# Altium integrated library TI_Logic_Gate.IntLib: 2017 symbols (part 2 of 56)
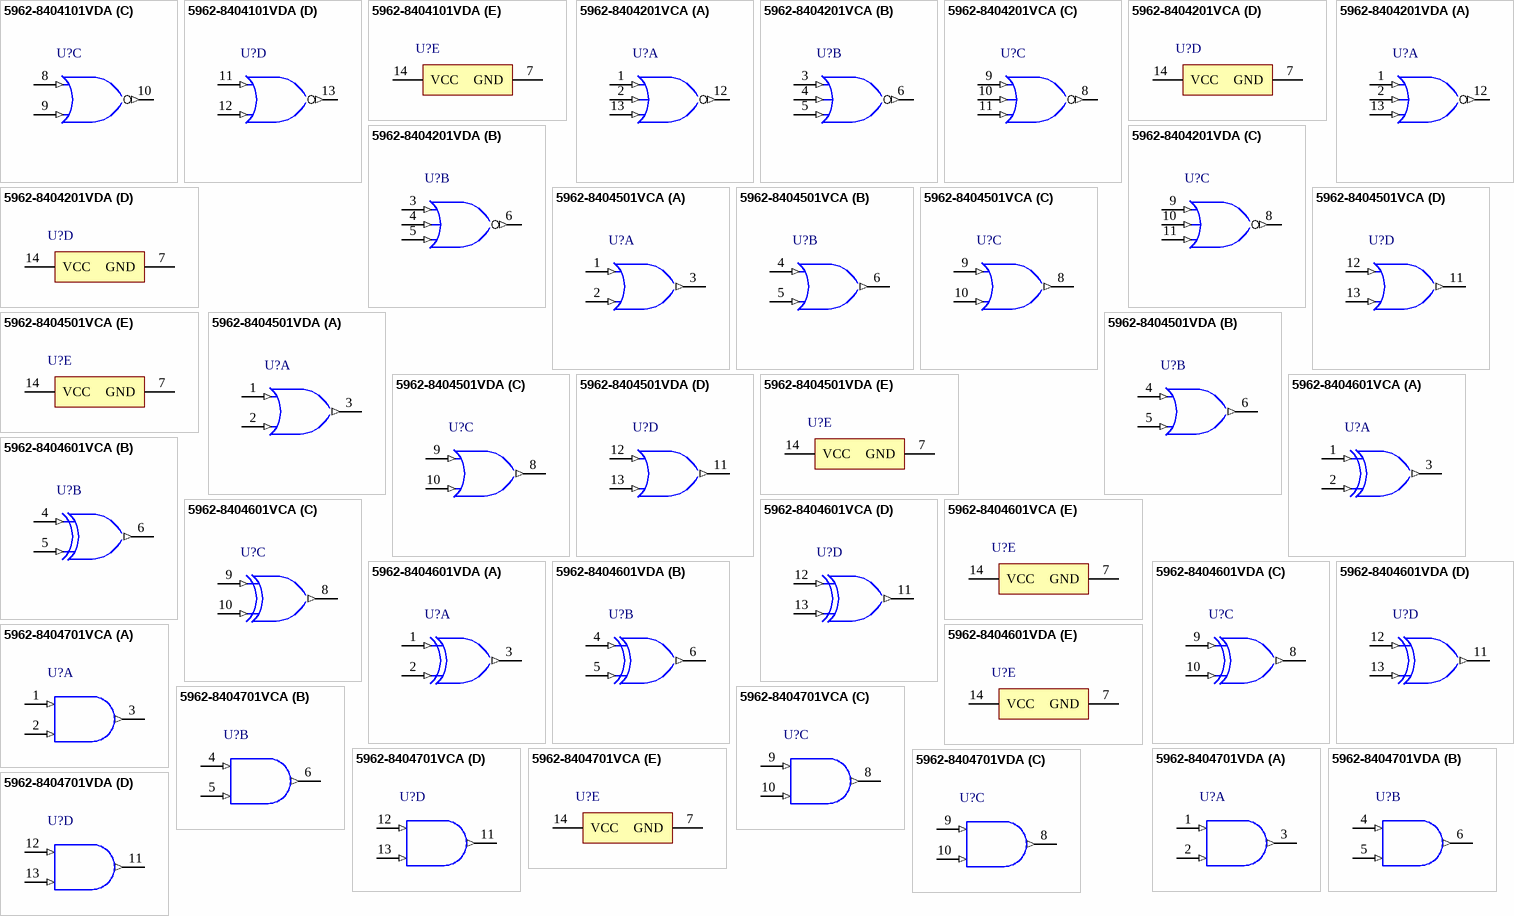
[diagram p227: symbols 5962-8404101VDA to 5962-8404701VDA]

## 5962-8404501VDA
designator U?
Quadruple 2-Input Positive-OR Gates, W0014A, TUBE; Generic Part Number: SN54HC32-SP; Manufacturer: Texas Instruments; PartNumber: 5962-8404501VDA; VCC(Min)(V): 2; VCC(Max)(V): 6; Output Type: CMOS; Bits(#): 4; Rating: Space; tpd @ Nom Voltage(Max)(ns): 150; DatasheetVersion: SCLS200D; PackageReference: W0014A; Input Type: CMOS; Operating Temperature Range(C): -55 to 125; ComponentLink1Description: Manufacturer URL; ComponentLink1URL: http://www.ti.com/; ComponentLink2Description: Datasheet; ComponentLink2URL: http://www.ti.com/lit/ds/symlink/sn54hc32-sp.pdf; ComponentLink3Description: Package Specification; ComponentLink3URL: http://www.ti.com/lit/ml/mcfp002c/mcfp002c.pdf
footprint W0014A_N (CFP, 14-Leads, Body 9.91x6.6mm, Pitch 1.27mm, IPC Medium Density)
footprint W0014A_M (CFP, 14-Leads, Body 9.91x6.6mm, Pitch 1.27mm, IPC Low Density)
footprint W0014A_L (CFP, 14-Leads, Body 9.91x6.6mm, Pitch 1.27mm, IPC High Density)
part A pins: 1 1A (in), 2 1B (in), 3 1Y (out)
part B pins: 4 2A (in), 5 2B (in), 6 2Y (out)
part C pins: 8 3Y (out), 9 3A (in), 10 3B (in)
part D pins: 11 4Y (out), 12 4A (in), 13 4B (in)
part E pins: 7 GND (power), 14 VCC (power)

## 5962-8404601VCA
designator U?
Quadruple 2-Input Exclusive-OR Gates, J0014A, TUBE; Generic Part Number: SN54HC86-SP; Manufacturer: Texas Instruments; PartNumber: 5962-8404601VCA; VCC(Min)(V): 2; VCC(Max)(V): 6; Output Type: CMOS; Rating: Space; Technology Family: HC; Schmitt Trigger: No; DatasheetVersion: SCLS100E; PackageReference: J0014A; Input Type: CMOS; ComponentLink1Description: Manufacturer URL; ComponentLink1URL: http://www.ti.com/; ComponentLink2Description: Datasheet; ComponentLink2URL: http://www.ti.com/lit/ds/symlink/sn54hc86-sp.pdf
footprint J0014A (DIP, 14-Leads, Body 19.95x7.2mm, Pitch 2.54mm)
part A pins: 1 1A (in), 2 1B (in), 3 1Y (out)
part B pins: 4 2A (in), 5 2B (in), 6 2Y (out)
part C pins: 8 3Y (out), 9 3A (in), 10 3B (in)
part D pins: 11 4Y (out), 12 4A (in), 13 4B (in)
part E pins: 7 GND (power), 14 VCC (power)

## 5962-8404601VDA
designator U?
Quadruple 2-Input Exclusive-OR Gates, W0014A, TUBE; Generic Part Number: SN54HC86-SP; Manufacturer: Texas Instruments; PartNumber: 5962-8404601VDA; VCC(Min)(V): 2; VCC(Max)(V): 6; Output Type: CMOS; Rating: Space; Technology Family: HC; Schmitt Trigger: No; DatasheetVersion: SCLS100E; PackageReference: W0014A; Input Type: CMOS; ComponentLink1Description: Manufacturer URL; ComponentLink1URL: http://www.ti.com/; ComponentLink2Description: Datasheet; ComponentLink2URL: http://www.ti.com/lit/ds/symlink/sn54hc86-sp.pdf
footprint W0014A_N (CFP, 14-Leads, Body 9.91x6.6mm, Pitch 1.27mm, IPC Medium Density)
footprint W0014A_M (CFP, 14-Leads, Body 9.91x6.6mm, Pitch 1.27mm, IPC Low Density)
footprint W0014A_L (CFP, 14-Leads, Body 9.91x6.6mm, Pitch 1.27mm, IPC High Density)
part A pins: 1 1A (in), 2 1B (in), 3 1Y (out)
part B pins: 4 2A (in), 5 2B (in), 6 2Y (out)
part C pins: 8 3Y (out), 9 3A (in), 10 3B (in)
part D pins: 11 4Y (out), 12 4A (in), 13 4B (in)
part E pins: 7 GND (power), 14 VCC (power)

## 5962-8404701VCA
designator U?
Quadruple 2-Input Positive-AND Gates, J0014A, TUBE; Generic Part Number: SN54HC08-SP; Manufacturer: Texas Instruments; PartNumber: 5962-8404701VCA; VCC(Min)(V): 2; VCC(Max)(V): 6; Output Type: CMOS; Rating: Space; Technology Family: HC; Schmitt Trigger: No; tpd @ Nom Voltage(Max)(ns): 150; DatasheetVersion: SCLS081F; PackageReference: J0014A; Input Type: CMOS; Operating Temperature Range(C): -55 to 125; ComponentLink1Description: Manufacturer URL; ComponentLink1URL: http://www.ti.com/; ComponentLink2Description: Datasheet; ComponentLink2URL: http://www.ti.com/lit/ds/symlink/sn54hc08-sp.pdf
footprint J0014A (DIP, 14-Leads, Body 19.95x7.2mm, Pitch 2.54mm)
part A pins: 1 1A (in), 2 1B (in), 3 1Y (out)
part B pins: 4 2A (in), 5 2B (in), 6 2Y (out)
part C pins: 8 3Y (out), 9 3A (in), 10 3B (in)
part D pins: 11 4Y (out), 12 4A (in), 13 4B (in)
part E pins: 7 GND (power), 14 VCC (power)

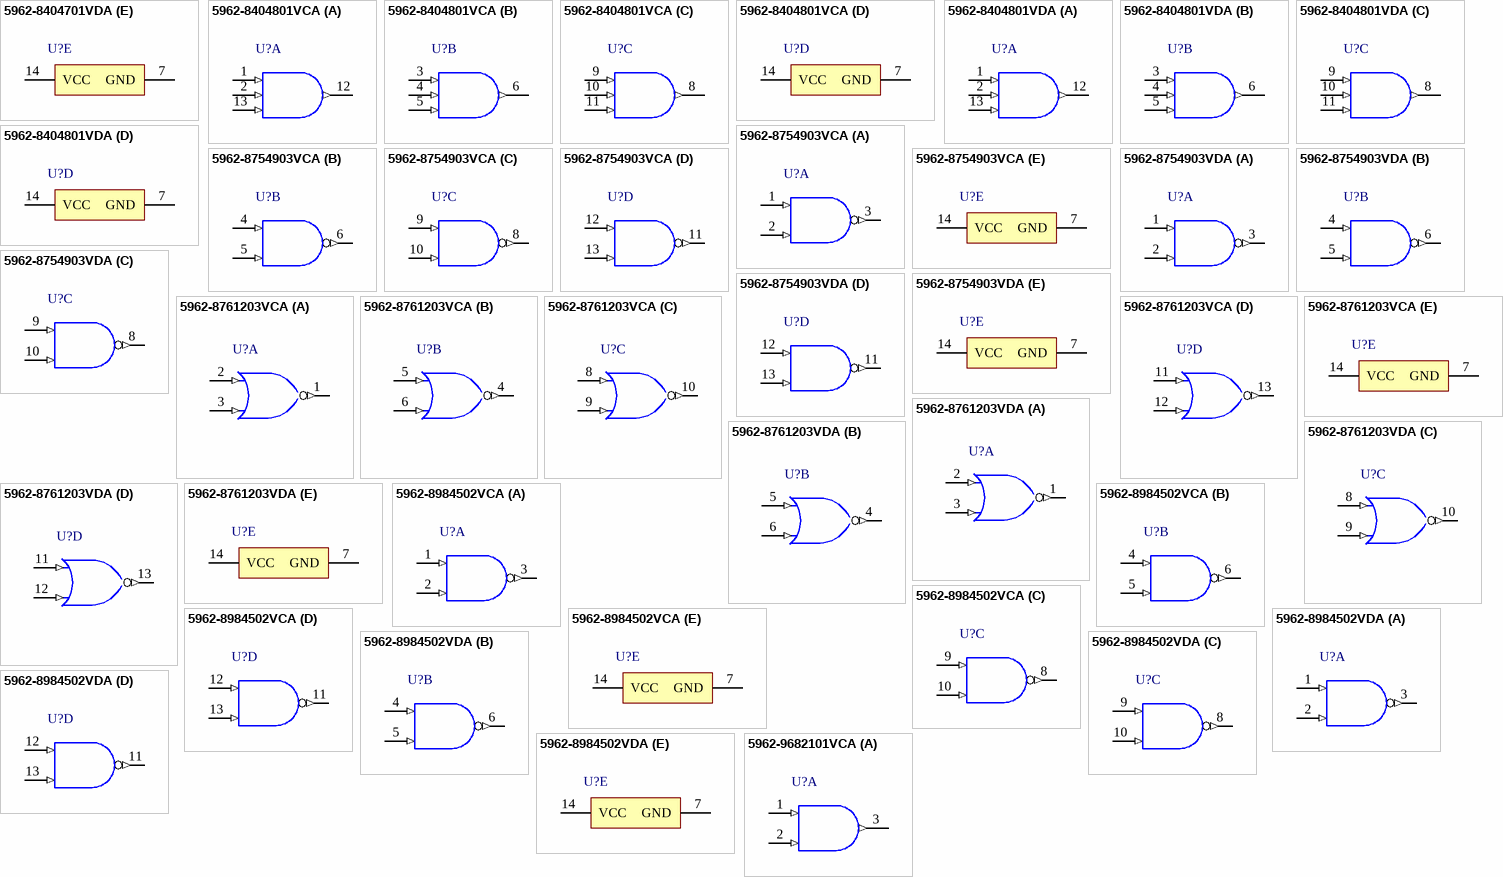
[diagram p5: symbols 5962-8404701VDA to 5962-9682101VCA]

## 5962-8404701VDA
designator U?
Quadruple 2-Input Positive-AND Gates, W0014A, TUBE; Generic Part Number: SN54HC08-SP; Manufacturer: Texas Instruments; PartNumber: 5962-8404701VDA; VCC(Min)(V): 2; VCC(Max)(V): 6; Output Type: CMOS; Rating: Space; Technology Family: HC; Schmitt Trigger: No; tpd @ Nom Voltage(Max)(ns): 150; DatasheetVersion: SCLS081F; PackageReference: W0014A; Input Type: CMOS; Operating Temperature Range(C): -55 to 125; ComponentLink1Description: Manufacturer URL; ComponentLink1URL: http://www.ti.com/; ComponentLink2Description: Datasheet; ComponentLink2URL: http://www.ti.com/lit/ds/symlink/sn54hc08-sp.pdf
footprint W0014A_N (CFP, 14-Leads, Body 9.91x6.6mm, Pitch 1.27mm, IPC Medium Density)
footprint W0014A_M (CFP, 14-Leads, Body 9.91x6.6mm, Pitch 1.27mm, IPC Low Density)
footprint W0014A_L (CFP, 14-Leads, Body 9.91x6.6mm, Pitch 1.27mm, IPC High Density)
part A pins: 1 1A (in), 2 1B (in), 3 1Y (out)
part B pins: 4 2A (in), 5 2B (in), 6 2Y (out)
part C pins: 8 3Y (out), 9 3A (in), 10 3B (in)
part D pins: 11 4Y (out), 12 4A (in), 13 4B (in)
part E pins: 7 GND (power), 14 VCC (power)

## 5962-8404801VCA
designator U?
Triple 3-Input Positive-AND Gates, J0014A, TUBE; Generic Part Number: SN54HC11-SP; Manufacturer: Texas Instruments; PartNumber: 5962-8404801VCA; VCC(Min)(V): 2; VCC(Max)(V): 6; Output Type: CMOS; Rating: Space; Technology Family: HC; Schmitt Trigger: No; Output Drive (IOL/IOH)(Max)(mA): -5.2/5.2; tpd @ Nom Voltage(Max)(ns): 150; DatasheetVersion: SCLS084D; PackageReference: J0014A; Input Type: CMOS; ComponentLink1Description: Manufacturer URL; ComponentLink1URL: http://www.ti.com/; ComponentLink2Description: Datasheet; ComponentLink2URL: http://www.ti.com/lit/ds/symlink/sn54hc11-sp.pdf
footprint J0014A (DIP, 14-Leads, Body 19.95x7.2mm, Pitch 2.54mm)
part A pins: 1 1A (in), 2 1B (in), 12 1Y (out), 13 1C (in)
part B pins: 3 2A (in), 4 2B (in), 5 2C (in), 6 2Y (out)
part C pins: 8 3Y (out), 9 3A (in), 10 3B (in), 11 3C (in)
part D pins: 7 GND (power), 14 VCC (power)

## 5962-8404801VDA
designator U?
Triple 3-Input Positive-AND Gates, W0014A, TUBE; Generic Part Number: SN54HC11-SP; Manufacturer: Texas Instruments; PartNumber: 5962-8404801VDA; VCC(Min)(V): 2; VCC(Max)(V): 6; Output Type: CMOS; Rating: Space; Technology Family: HC; Schmitt Trigger: No; Output Drive (IOL/IOH)(Max)(mA): -5.2/5.2; tpd @ Nom Voltage(Max)(ns): 150; DatasheetVersion: SCLS084D; PackageReference: W0014A; Input Type: CMOS; ComponentLink1Description: Manufacturer URL; ComponentLink1URL: http://www.ti.com/; ComponentLink2Description: Datasheet; ComponentLink2URL: http://www.ti.com/lit/ds/symlink/sn54hc11-sp.pdf
footprint W0014A_N (CFP, 14-Leads, Body 9.91x6.6mm, Pitch 1.27mm, IPC Medium Density)
footprint W0014A_M (CFP, 14-Leads, Body 9.91x6.6mm, Pitch 1.27mm, IPC Low Density)
footprint W0014A_L (CFP, 14-Leads, Body 9.91x6.6mm, Pitch 1.27mm, IPC High Density)
part A pins: 1 1A (in), 2 1B (in), 12 1Y (out), 13 1C (in)
part B pins: 3 2A (in), 4 2B (in), 5 2C (in), 6 2Y (out)
part C pins: 8 3Y (out), 9 3A (in), 10 3B (in), 11 3C (in)
part D pins: 7 GND (power), 14 VCC (power)

## 5962-8754903VCA
designator U?
Quadruple 2-Input Positive-NAND Gates, J0014A, TUBE; Generic Part Number: SN54AC00-SP; Manufacturer: Texas Instruments; PartNumber: 5962-8754903VCA; VCC(Min)(V): 2; VCC(Max)(V): 6; Output Type: CMOS; ICC @ Nom Voltage(Max)(mA): 0.04; F @ Nom Voltage(Max)(Mhz): 100; Rating: Space; Technology Family: AC; Voltage(Nom)(V): 3.3,5; Schmitt Trigger: No; Output Drive (IOL/IOH)(Max)(mA): 24/-24; tpd @ Nom Voltage(Max)(ns): 11,7; DatasheetVersion: SCHS367B; PackageReference: J0014A; Supplier 1: Mouser; Supplier Part Number 1: 595-5962-8754903VCA; Supplier 2: Digi-Key; Supplier Part Number 2: 5962-8754903VCA-ND; Input Type: CMOS; Operating Temperature Range(C): -55 to 125; ComponentLink1Description: Manufacturer URL; ComponentLink1URL: http://www.ti.com/; ComponentLink2Description: Datasheet; ComponentLink2URL: http://www.ti.com/lit/ds/symlink/sn54ac00-sp.pdf; ComponentLink3Description: Package Specification; ComponentLink3URL: http://www.ti.com/lit/ml/mcer002d/mcer002d.pdf
footprint J0014A (DIP, 14-Leads, Body 19.95x7.2mm, Pitch 2.54mm)
part A pins: 1 1A (in) "Gate 1 input", 2 1B (in) "Gate 1 input", 3 1Y (out) "Gate 1 output"
part B pins: 4 2A (in) "Gate 2 input", 5 2B (in) "Gate 2 input", 6 2Y (out) "Gate 2 output"
part C pins: 8 3Y (out) "Gate 3 output", 9 3A (in) "Gate 3 input", 10 3B (in) "Gate 3 input"
part D pins: 11 4Y (out) "Gate 4 output", 12 4A (in) "Gate 4 input", 13 4B (in) "Gate 4 input"
part E pins: 7 GND (power) "Ground Pin", 14 VCC (power) "Power Pin"

## 5962-8754903VDA
designator U?
Quadruple 2-Input Positive-NAND Gates, W0014A, TUBE; Generic Part Number: SN54AC00-SP; Manufacturer: Texas Instruments; PartNumber: 5962-8754903VDA; VCC(Min)(V): 2; VCC(Max)(V): 6; Output Type: CMOS; ICC @ Nom Voltage(Max)(mA): 0.04; F @ Nom Voltage(Max)(Mhz): 100; Rating: Space; Technology Family: AC; Voltage(Nom)(V): 3.3,5; Schmitt Trigger: No; Output Drive (IOL/IOH)(Max)(mA): 24/-24; tpd @ Nom Voltage(Max)(ns): 11,7; DatasheetVersion: SCHS367B; PackageReference: W0014A; Supplier 1: Mouser; Supplier Part Number 1: 595-5962-8754903VDA; Supplier 2: Digi-Key; Supplier Part Number 2: 5962-8754903VDA-ND; Input Type: CMOS; Operating Temperature Range(C): -55 to 125; ComponentLink1Description: Manufacturer URL; ComponentLink1URL: http://www.ti.com/; ComponentLink2Description: Datasheet; ComponentLink2URL: http://www.ti.com/lit/ds/symlink/sn54ac00-sp.pdf; ComponentLink3Description: Package Specification; ComponentLink3URL: http://www.ti.com/lit/ml/mcfp002c/mcfp002c.pdf
footprint W0014A_N (CFP, 14-Leads, Body 9.91x6.6mm, Pitch 1.27mm, IPC Medium Density)
footprint W0014A_M (CFP, 14-Leads, Body 9.91x6.6mm, Pitch 1.27mm, IPC Low Density)
footprint W0014A_L (CFP, 14-Leads, Body 9.91x6.6mm, Pitch 1.27mm, IPC High Density)
part A pins: 1 1A (in) "Gate 1 input", 2 1B (in) "Gate 1 input", 3 1Y (out) "Gate 1 output"
part B pins: 4 2A (in) "Gate 2 input", 5 2B (in) "Gate 2 input", 6 2Y (out) "Gate 2 output"
part C pins: 8 3Y (out) "Gate 3 output", 9 3A (in) "Gate 3 input", 10 3B (in) "Gate 3 input"
part D pins: 11 4Y (out) "Gate 4 output", 12 4A (in) "Gate 4 input", 13 4B (in) "Gate 4 input"
part E pins: 7 GND (power) "Ground Pin", 14 VCC (power) "Power Pin"

## 5962-8761203VCA
designator U?
Quadruple 2-Input Positive-NOR Gates, J0014A, TUBE; Generic Part Number: SN54AC02-SP; Manufacturer: Texas Instruments; PartNumber: 5962-8761203VCA; VCC(Min)(V): 2; VCC(Max)(V): 6; Output Type: CMOS; Bits(#): 4; Rating: Space; tpd @ Nom Voltage(Max)(ns): 144,16.1,11.5; ICC @ Nom Voltage(Max)(mA): 0.08; F @ Nom Voltage(Max)(Mhz): 100; Voltage(Nom)(V): 1.5,3.3,5; Output Drive (IOL/IOH)(Max)(mA): 24/-24; DatasheetVersion: SCHS368A; PackageReference: J0014A; Input Type: CMOS; Operating Temperature Range(C): -55 to 125; ComponentLink1Description: Manufacturer URL; ComponentLink1URL: http://www.ti.com/; ComponentLink2Description: Datasheet; ComponentLink2URL: http://www.ti.com/lit/ds/symlink/sn54ac02-sp.pdf; ComponentLink3Description: Package Specification; ComponentLink3URL: http://www.ti.com/lit/ml/mcer002d/mcer002d.pdf
footprint J0014A (DIP, 14-Leads, Body 19.95x7.2mm, Pitch 2.54mm)
part A pins: 1 1Y (out) "1Y output", 2 1A (in) "1A input", 3 1B (in) "1B input"
part B pins: 4 2Y (out) "2Y output", 5 2A (in) "2A input", 6 2B (in) "2B input"
part C pins: 8 3A (in) "3A input", 9 3B (in) "3B input", 10 3Y (out) "3Y output"
part D pins: 11 4A (in) "4A input", 12 4B (in) "4B input", 13 4Y (out) "4Y output"
part E pins: 7 GND (power), 14 VCC (power)

## 5962-8761203VDA
designator U?
Quadruple 2-Input Positive-NOR Gates, W0014A, TUBE; Generic Part Number: SN54AC02-SP; Manufacturer: Texas Instruments; PartNumber: 5962-8761203VDA; VCC(Min)(V): 2; VCC(Max)(V): 6; Output Type: CMOS; Bits(#): 4; Rating: Space; tpd @ Nom Voltage(Max)(ns): 144,16.1,11.5; ICC @ Nom Voltage(Max)(mA): 0.08; F @ Nom Voltage(Max)(Mhz): 100; Voltage(Nom)(V): 1.5,3.3,5; Output Drive (IOL/IOH)(Max)(mA): 24/-24; DatasheetVersion: SCHS368A; PackageReference: W0014A; Input Type: CMOS; Operating Temperature Range(C): -55 to 125; ComponentLink1Description: Manufacturer URL; ComponentLink1URL: http://www.ti.com/; ComponentLink2Description: Datasheet; ComponentLink2URL: http://www.ti.com/lit/ds/symlink/sn54ac02-sp.pdf; ComponentLink3Description: Package Specification; ComponentLink3URL: http://www.ti.com/lit/ml/mcfp002c/mcfp002c.pdf
footprint W0014A_N (CFP, 14-Leads, Body 9.91x6.6mm, Pitch 1.27mm, IPC Medium Density)
footprint W0014A_M (CFP, 14-Leads, Body 9.91x6.6mm, Pitch 1.27mm, IPC Low Density)
footprint W0014A_L (CFP, 14-Leads, Body 9.91x6.6mm, Pitch 1.27mm, IPC High Density)
part A pins: 1 1Y (out) "1Y output", 2 1A (in) "1A input", 3 1B (in) "1B input"
part B pins: 4 2Y (out) "2Y output", 5 2A (in) "2A input", 6 2B (in) "2B input"
part C pins: 8 3A (in) "3A input", 9 3B (in) "3B input", 10 3Y (out) "3Y output"
part D pins: 11 4A (in) "4A input", 12 4B (in) "4B input", 13 4Y (out) "4Y output"
part E pins: 7 GND (power), 14 VCC (power)

## 5962-8984502VCA
designator U?
Quadruple Positive-NAND Gates With Schmitt-trigger Inputs, J0014A, TUBE; Generic Part Number: SN54HC132-SP; Manufacturer: Texas Instruments; PartNumber: 5962-8984502VCA; VCC(Min)(V): 2; VCC(Max)(V): 6; Output Type: CMOS; Rating: Space; Technology Family: HC; Schmitt Trigger: Yes; DatasheetVersion: SCLS034F; PackageReference: J0014A; Input Type: CMOS; Operating Temperature Range(C): -55 to 125; ComponentLink1Description: Manufacturer URL; ComponentLink1URL: http://www.ti.com/; ComponentLink2Description: Datasheet; ComponentLink2URL: http://www.ti.com/lit/ds/symlink/sn54hc132-sp.pdf; ComponentLink3Description: Package Specification; ComponentLink3URL: http://www.ti.com/lit/ml/mcer002d/mcer002d.pdf
footprint J0014A (DIP, 14-Leads, Body 19.95x7.2mm, Pitch 2.54mm)
part A pins: 1 1A (in) "Gate 1 input", 2 1B (in) "Gate 1 input", 3 1Y (out) "Gate 1 output"
part B pins: 4 2A (in) "Gate 2 input", 5 2B (in) "Gate 2 input", 6 2Y (out) "Gate 2 output"
part C pins: 8 3Y (out) "Gate 3 output", 9 3A (in) "Gate 3 input", 10 3B (in) "Gate 3 input"
part D pins: 11 4Y (out) "Gate 4 output", 12 4A (in) "Gate 4 input", 13 4B (in) "Gate 4 input"
part E pins: 7 GND (power) "Ground Pin", 14 VCC (power) "Power Pin"

## 5962-8984502VDA
designator U?
Quadruple Positive-NAND Gates With Schmitt-trigger Inputs, W0014A, TUBE; Generic Part Number: SN54HC132-SP; Manufacturer: Texas Instruments; PartNumber: 5962-8984502VDA; VCC(Min)(V): 2; VCC(Max)(V): 6; Output Type: CMOS; Rating: Space; Technology Family: HC; Schmitt Trigger: Yes; DatasheetVersion: SCLS034F; PackageReference: W0014A; Input Type: CMOS; Operating Temperature Range(C): -55 to 125; ComponentLink1Description: Manufacturer URL; ComponentLink1URL: http://www.ti.com/; ComponentLink2Description: Datasheet; ComponentLink2URL: http://www.ti.com/lit/ds/symlink/sn54hc132-sp.pdf; ComponentLink3Description: Package Specification; ComponentLink3URL: http://www.ti.com/lit/ml/mcfp002c/mcfp002c.pdf
footprint W0014A_N (CFP, 14-Leads, Body 9.91x6.6mm, Pitch 1.27mm, IPC Medium Density)
footprint W0014A_M (CFP, 14-Leads, Body 9.91x6.6mm, Pitch 1.27mm, IPC Low Density)
footprint W0014A_L (CFP, 14-Leads, Body 9.91x6.6mm, Pitch 1.27mm, IPC High Density)
part A pins: 1 1A (in) "Gate 1 input", 2 1B (in) "Gate 1 input", 3 1Y (out) "Gate 1 output"
part B pins: 4 2A (in) "Gate 2 input", 5 2B (in) "Gate 2 input", 6 2Y (out) "Gate 2 output"
part C pins: 8 3Y (out) "Gate 3 output", 9 3A (in) "Gate 3 input", 10 3B (in) "Gate 3 input"
part D pins: 11 4Y (out) "Gate 4 output", 12 4A (in) "Gate 4 input", 13 4B (in) "Gate 4 input"
part E pins: 7 GND (power) "Ground Pin", 14 VCC (power) "Power Pin"

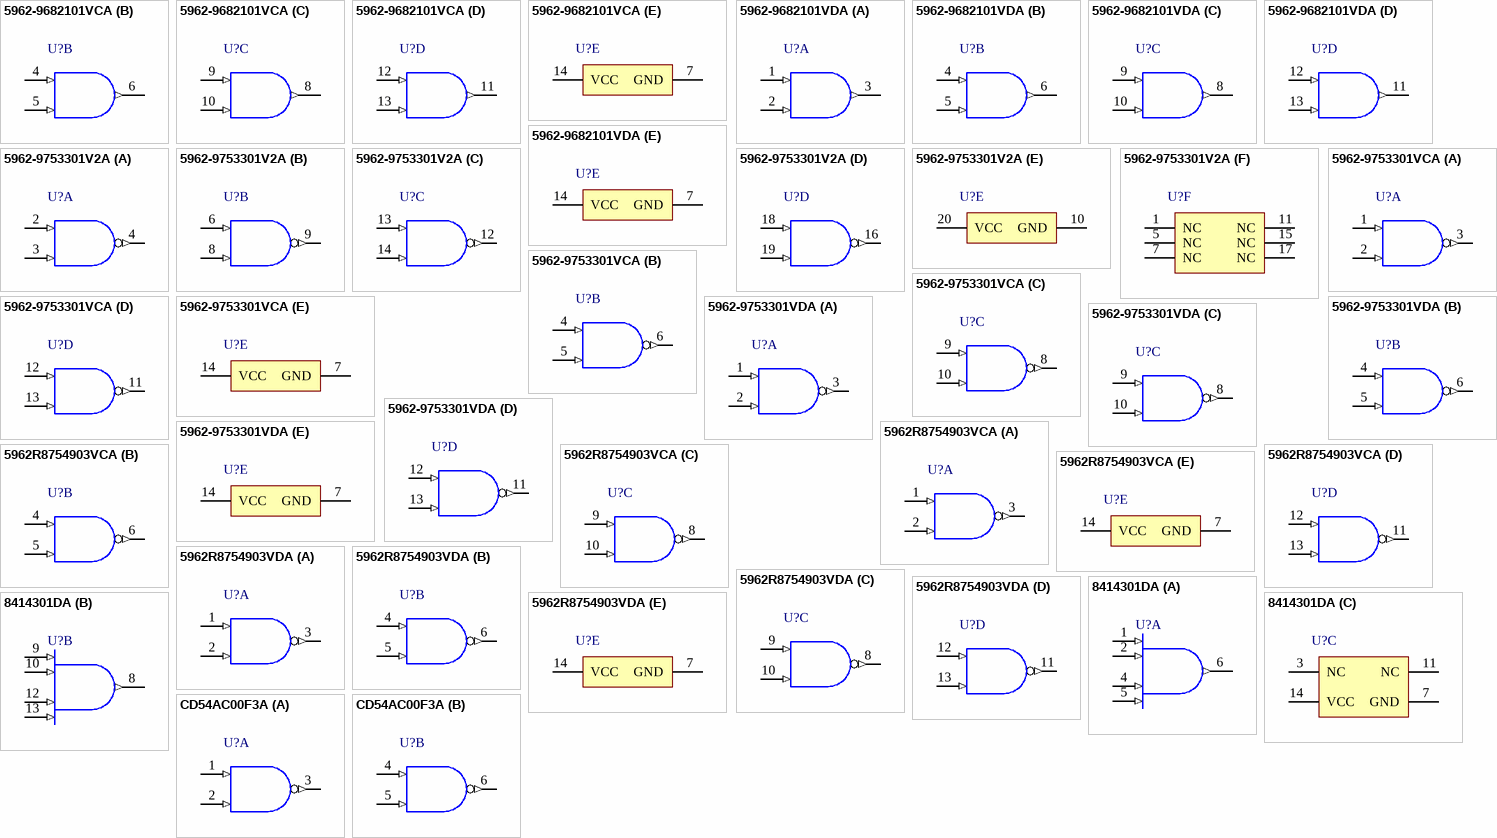
[diagram p6: symbols 5962-9682101VCA to CD54AC00F3A]

## 5962-9682101VCA
designator U?
Quadruple 2-Input Positive-AND Gates, J0014A, TUBE; Generic Part Number: SN54AHCT08-SP; Manufacturer: Texas Instruments; PartNumber: 5962-9682101VCA; VCC(Min)(V): 4.5; VCC(Max)(V): 5.5; Output Type: CMOS; Input Type: TTL; Rating: Space; Technology Family: AHCT; Schmitt Trigger: No; Output Drive (IOL/IOH)(Max)(mA): -8/8; tpd @ Nom Voltage(Max)(ns): 9; DatasheetVersion: SCLS237M; PackageReference: J0014A; Operating Temperature Range(C): -55 to 125; ComponentLink1Description: Manufacturer URL; ComponentLink1URL: http://www.ti.com/; ComponentLink2Description: Datasheet; ComponentLink2URL: http://www.ti.com/lit/ds/symlink/sn54ahct08-sp.pdf
footprint J0014A (DIP, 14-Leads, Body 19.95x7.2mm, Pitch 2.54mm)
part A pins: 1 1A (in), 2 1B (in), 3 1Y (out)
part B pins: 4 2A (in), 5 2B (in), 6 2Y (out)
part C pins: 8 3Y (out), 9 3A (in), 10 3B (in)
part D pins: 11 4Y (out), 12 4A (in), 13 4B (in)
part E pins: 7 GND (power), 14 VCC (power)

## 5962-9682101VDA
designator U?
Quadruple 2-Input Positive-AND Gates, W0014A, TUBE; Generic Part Number: SN54AHCT08-SP; Manufacturer: Texas Instruments; PartNumber: 5962-9682101VDA; VCC(Min)(V): 4.5; VCC(Max)(V): 5.5; Output Type: CMOS; Input Type: TTL; Rating: Space; Technology Family: AHCT; Schmitt Trigger: No; Output Drive (IOL/IOH)(Max)(mA): -8/8; tpd @ Nom Voltage(Max)(ns): 9; DatasheetVersion: SCLS237M; PackageReference: W0014A; Operating Temperature Range(C): -55 to 125; ComponentLink1Description: Manufacturer URL; ComponentLink1URL: http://www.ti.com/; ComponentLink2Description: Datasheet; ComponentLink2URL: http://www.ti.com/lit/ds/symlink/sn54ahct08-sp.pdf
footprint W0014A_N (CFP, 14-Leads, Body 9.91x6.6mm, Pitch 1.27mm, IPC Medium Density)
footprint W0014A_M (CFP, 14-Leads, Body 9.91x6.6mm, Pitch 1.27mm, IPC Low Density)
footprint W0014A_L (CFP, 14-Leads, Body 9.91x6.6mm, Pitch 1.27mm, IPC High Density)
part A pins: 1 1A (in), 2 1B (in), 3 1Y (out)
part B pins: 4 2A (in), 5 2B (in), 6 2Y (out)
part C pins: 8 3Y (out), 9 3A (in), 10 3B (in)
part D pins: 11 4Y (out), 12 4A (in), 13 4B (in)
part E pins: 7 GND (power), 14 VCC (power)

## 5962-9753301V2A
designator U?
Quadruple 2-Input Positive-NAND Gate, FK0020A, TUBE; Generic Part Number: SN54LVC00A-SP; Manufacturer: Texas Instruments; PartNumber: 5962-9753301V2A; VCC(Min)(V): 2; VCC(Max)(V): 3.6; Output Type: TTL; ICC @ Nom Voltage(Max)(mA): 0.01; F @ Nom Voltage(Max)(Mhz): 150; Rating: Space; Technology Family: LVC; Voltage(Nom)(V): 2.7,3.3; Schmitt Trigger: No; Output Drive (IOL/IOH)(Max)(mA): 24/-24; tpd @ Nom Voltage(Max)(ns): 5.1,4.3; DatasheetVersion: SCAS279Q; PackageReference: FK0020A; Input Type: TTL; Operating Temperature Range(C): -55 to 125; Code_JEDEC: MS-004; ComponentLink1Description: Manufacturer URL; ComponentLink1URL: http://www.ti.com/; ComponentLink2Description: Datasheet; ComponentLink2URL: http://www.ti.com/lit/ds/symlink/sn54lvc00a-sp.pdf; ComponentLink3Description: Package Specification; ComponentLink3URL: http://www.ti.com/lit/ml/mlcc006d/mlcc006d.pdf
footprint FK0020A_N (LCC, 20-Leads, Body 8.9x8.9mm, Pitch 1.27mm, IPC Medium Density)
footprint FK0020A_M (LCC, 20-Leads, Body 8.9x8.9mm, Pitch 1.27mm, IPC Low Density)
footprint FK0020A_L (LCC, 20-Leads, Body 8.9x8.9mm, Pitch 1.27mm, IPC High Density)
part A pins: 2 1A (in), 3 1B (in), 4 1Y (out)
part B pins: 6 2A (in), 8 2B (in), 9 2Y (out)
part C pins: 12 3Y (out), 13 3A (in), 14 3B (in)
part D pins: 16 4Y (out), 18 4A (in), 19 4B (in)
part E pins: 10 GND (power), 20 VCC (power)
part F pins: 1 NC, 5 NC, 7 NC, 11 NC, 15 NC, 17 NC

## 5962-9753301VCA
designator U?
Quadruple 2-Input Positive-NAND Gate, J0014A, TUBE; Generic Part Number: SN54LVC00A-SP; Manufacturer: Texas Instruments; PartNumber: 5962-9753301VCA; VCC(Min)(V): 2; VCC(Max)(V): 3.6; Output Type: TTL; ICC @ Nom Voltage(Max)(mA): 0.01; F @ Nom Voltage(Max)(Mhz): 150; Rating: Space; Technology Family: LVC; Voltage(Nom)(V): 2.7,3.3; Schmitt Trigger: No; Output Drive (IOL/IOH)(Max)(mA): 24/-24; tpd @ Nom Voltage(Max)(ns): 5.1,4.3; DatasheetVersion: SCAS279Q; PackageReference: J0014A; Input Type: TTL; Operating Temperature Range(C): -55 to 125; ComponentLink1Description: Manufacturer URL; ComponentLink1URL: http://www.ti.com/; ComponentLink2Description: Datasheet; ComponentLink2URL: http://www.ti.com/lit/ds/symlink/sn54lvc00a-sp.pdf; ComponentLink3Description: Package Specification; ComponentLink3URL: http://www.ti.com/lit/ml/mcer002d/mcer002d.pdf
footprint J0014A (DIP, 14-Leads, Body 19.95x7.2mm, Pitch 2.54mm)
part A pins: 1 1A (in) "Gate 1 input", 2 1B (in) "Gate 1 input", 3 1Y (out) "Gate 1 output"
part B pins: 4 2A (in) "Gate 2 input", 5 2B (in) "Gate 2 input", 6 2Y (out) "Gate 2 output"
part C pins: 8 3Y (out) "Gate 3 output", 9 3A (in) "Gate 3 input", 10 3B (in) "Gate 3 input"
part D pins: 11 4Y (out) "Gate 4 output", 12 4A (in) "Gate 4 input", 13 4B (in) "Gate 4 input"
part E pins: 7 GND (power) "Ground Pin", 14 VCC (power) "Power Pin"

## 5962-9753301VDA
designator U?
Quadruple 2-Input Positive-NAND Gate, W0014A, TUBE; Generic Part Number: SN54LVC00A-SP; Manufacturer: Texas Instruments; PartNumber: 5962-9753301VDA; VCC(Min)(V): 2; VCC(Max)(V): 3.6; Output Type: TTL; ICC @ Nom Voltage(Max)(mA): 0.01; F @ Nom Voltage(Max)(Mhz): 150; Rating: Space; Technology Family: LVC; Voltage(Nom)(V): 2.7,3.3; Schmitt Trigger: No; Output Drive (IOL/IOH)(Max)(mA): 24/-24; tpd @ Nom Voltage(Max)(ns): 5.1,4.3; DatasheetVersion: SCAS279Q; PackageReference: W0014A; Input Type: TTL; Operating Temperature Range(C): -55 to 125; ComponentLink1Description: Manufacturer URL; ComponentLink1URL: http://www.ti.com/; ComponentLink2Description: Datasheet; ComponentLink2URL: http://www.ti.com/lit/ds/symlink/sn54lvc00a-sp.pdf; ComponentLink3Description: Package Specification; ComponentLink3URL: http://www.ti.com/lit/ml/mcfp002c/mcfp002c.pdf
footprint W0014A_N (CFP, 14-Leads, Body 9.91x6.6mm, Pitch 1.27mm, IPC Medium Density)
footprint W0014A_M (CFP, 14-Leads, Body 9.91x6.6mm, Pitch 1.27mm, IPC Low Density)
footprint W0014A_L (CFP, 14-Leads, Body 9.91x6.6mm, Pitch 1.27mm, IPC High Density)
part A pins: 1 1A (in) "Gate 1 input", 2 1B (in) "Gate 1 input", 3 1Y (out) "Gate 1 output"
part B pins: 4 2A (in) "Gate 2 input", 5 2B (in) "Gate 2 input", 6 2Y (out) "Gate 2 output"
part C pins: 8 3Y (out) "Gate 3 output", 9 3A (in) "Gate 3 input", 10 3B (in) "Gate 3 input"
part D pins: 11 4Y (out) "Gate 4 output", 12 4A (in) "Gate 4 input", 13 4B (in) "Gate 4 input"
part E pins: 7 GND (power) "Ground Pin", 14 VCC (power) "Power Pin"

## 5962R8754903VCA
designator U?
Quadruple 2-Input Positive-NAND Gates, J0014A, TUBE; Generic Part Number: SN54AC00-SP; Manufacturer: Texas Instruments; PartNumber: 5962R8754903VCA; VCC(Min)(V): 2; VCC(Max)(V): 6; Output Type: CMOS; ICC @ Nom Voltage(Max)(mA): 0.04; F @ Nom Voltage(Max)(Mhz): 100; Rating: Space; Technology Family: AC; Voltage(Nom)(V): 3.3,5; Schmitt Trigger: No; Output Drive (IOL/IOH)(Max)(mA): 24/-24; tpd @ Nom Voltage(Max)(ns): 11,7; DatasheetVersion: SCHS367B; PackageReference: J0014A; Supplier 1: Mouser; Supplier Part Number 1: 595-5962R8754903VCA; Input Type: CMOS; Operating Temperature Range(C): -55 to 125; ComponentLink1Description: Manufacturer URL; ComponentLink1URL: http://www.ti.com/; ComponentLink2Description: Datasheet; ComponentLink2URL: http://www.ti.com/lit/ds/symlink/sn54ac00-sp.pdf; ComponentLink3Description: Package Specification; ComponentLink3URL: http://www.ti.com/lit/ml/mcer002d/mcer002d.pdf
footprint J0014A (DIP, 14-Leads, Body 19.95x7.2mm, Pitch 2.54mm)
part A pins: 1 1A (in) "Gate 1 input", 2 1B (in) "Gate 1 input", 3 1Y (out) "Gate 1 output"
part B pins: 4 2A (in) "Gate 2 input", 5 2B (in) "Gate 2 input", 6 2Y (out) "Gate 2 output"
part C pins: 8 3Y (out) "Gate 3 output", 9 3A (in) "Gate 3 input", 10 3B (in) "Gate 3 input"
part D pins: 11 4Y (out) "Gate 4 output", 12 4A (in) "Gate 4 input", 13 4B (in) "Gate 4 input"
part E pins: 7 GND (power) "Ground Pin", 14 VCC (power) "Power Pin"

## 5962R8754903VDA
designator U?
Quadruple 2-Input Positive-NAND Gates, W0014A, TUBE; Generic Part Number: SN54AC00-SP; Manufacturer: Texas Instruments; PartNumber: 5962R8754903VDA; VCC(Min)(V): 2; VCC(Max)(V): 6; Output Type: CMOS; ICC @ Nom Voltage(Max)(mA): 0.04; F @ Nom Voltage(Max)(Mhz): 100; Rating: Space; Technology Family: AC; Voltage(Nom)(V): 3.3,5; Schmitt Trigger: No; Output Drive (IOL/IOH)(Max)(mA): 24/-24; tpd @ Nom Voltage(Max)(ns): 11,7; DatasheetVersion: SCHS367B; PackageReference: W0014A; Supplier 1: Mouser; Supplier Part Number 1: 595-5962R8754903VDA; Input Type: CMOS; Operating Temperature Range(C): -55 to 125; ComponentLink1Description: Manufacturer URL; ComponentLink1URL: http://www.ti.com/; ComponentLink2Description: Datasheet; ComponentLink2URL: http://www.ti.com/lit/ds/symlink/sn54ac00-sp.pdf; ComponentLink3Description: Package Specification; ComponentLink3URL: http://www.ti.com/lit/ml/mcfp002c/mcfp002c.pdf
footprint W0014A_N (CFP, 14-Leads, Body 9.91x6.6mm, Pitch 1.27mm, IPC Medium Density)
footprint W0014A_M (CFP, 14-Leads, Body 9.91x6.6mm, Pitch 1.27mm, IPC Low Density)
footprint W0014A_L (CFP, 14-Leads, Body 9.91x6.6mm, Pitch 1.27mm, IPC High Density)
part A pins: 1 1A (in) "Gate 1 input", 2 1B (in) "Gate 1 input", 3 1Y (out) "Gate 1 output"
part B pins: 4 2A (in) "Gate 2 input", 5 2B (in) "Gate 2 input", 6 2Y (out) "Gate 2 output"
part C pins: 8 3Y (out) "Gate 3 output", 9 3A (in) "Gate 3 input", 10 3B (in) "Gate 3 input"
part D pins: 11 4Y (out) "Gate 4 output", 12 4A (in) "Gate 4 input", 13 4B (in) "Gate 4 input"
part E pins: 7 GND (power) "Ground Pin", 14 VCC (power) "Power Pin"

## 8414301DA
designator U?
Dual 4-Input Positive-AND Gates, W0014A, TUBE; Generic Part Number: SN54ALS21A; Manufacturer: Texas Instruments; PartNumber: 8414301DA; VCC(Min)(V): 4.5; VCC(Max)(V): 5.5; Output Type: TTL; Rating: Military; Technology Family: ALS; Schmitt Trigger: No; tpd @ Nom Voltage(Max)(ns): 18; DatasheetVersion: SDAS085B; PackageReference: W0014A; Input Type: TTL; Operating Temperature Range(C): -55 to 125; ComponentLink1Description: Manufacturer URL; ComponentLink1URL: http://www.ti.com/; ComponentLink2Description: Datasheet; ComponentLink2URL: http://www.ti.com/lit/ds/symlink/sn54als21a.pdf
footprint W0014A_N (CFP, 14-Leads, Body 9.91x6.6mm, Pitch 1.27mm, IPC Medium Density)
footprint W0014A_M (CFP, 14-Leads, Body 9.91x6.6mm, Pitch 1.27mm, IPC Low Density)
footprint W0014A_L (CFP, 14-Leads, Body 9.91x6.6mm, Pitch 1.27mm, IPC High Density)
part A pins: 1 1A (in), 2 1B (in), 4 1C (in), 5 1D (in), 6 1Y (out)
part B pins: 8 2Y (out), 9 2A (in), 10 2B (in), 12 2C (in), 13 2D (in)
part C pins: 3 NC, 7 GND (power), 11 NC, 14 VCC (power)

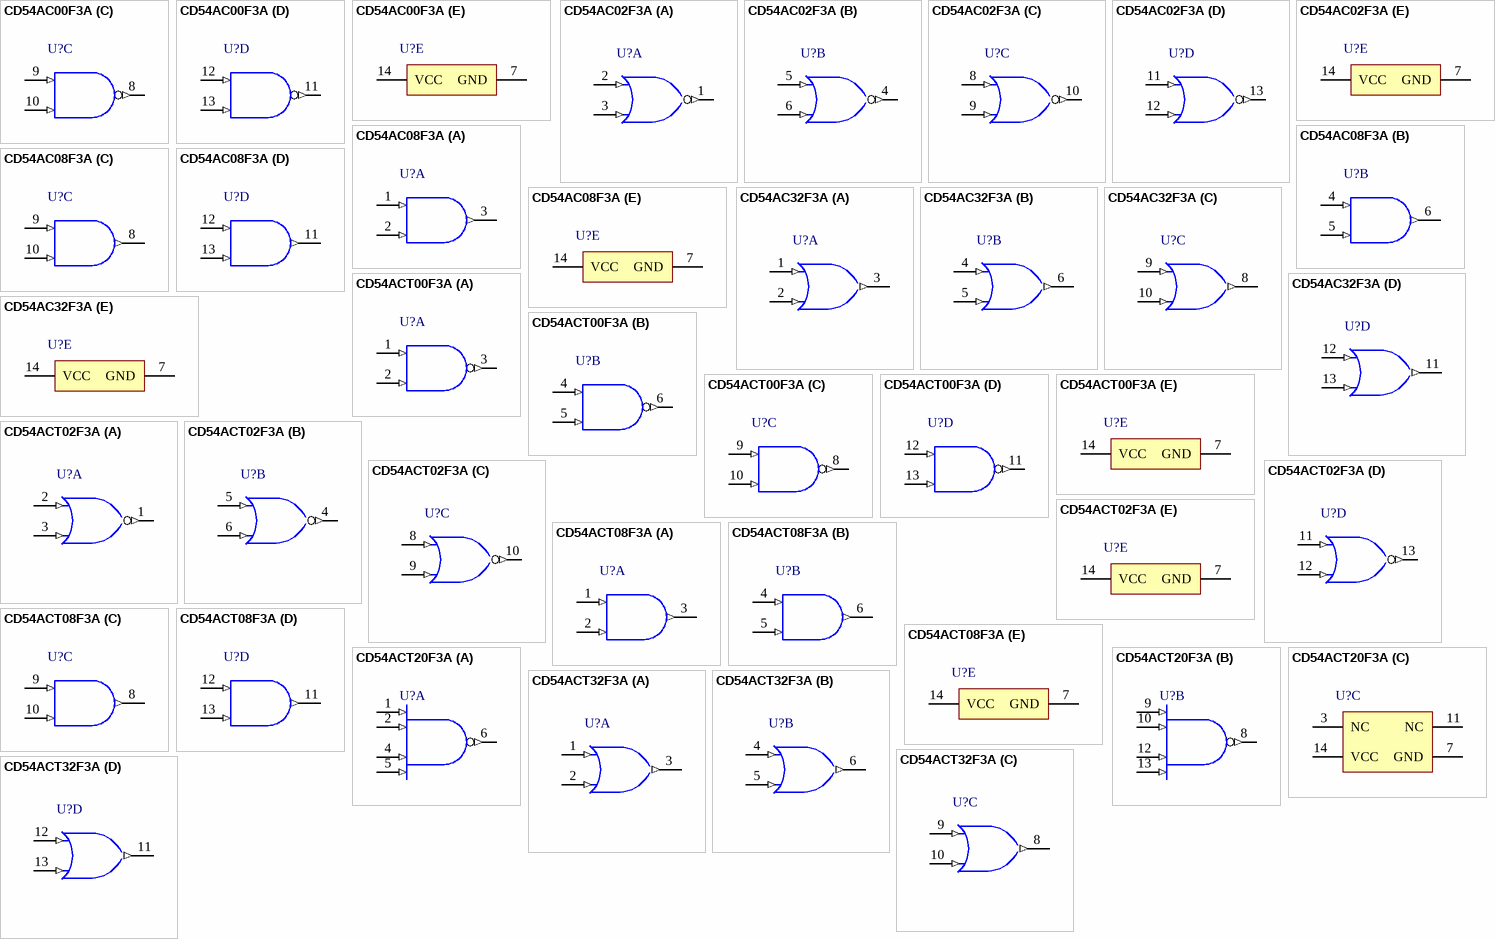
[diagram p7: symbols CD54AC00F3A to CD54ACT32F3A]

## CD54AC00F3A
designator U?
Quad 2-Input NAND Gates, J0014A, TUBE; Generic Part Number: CD54AC00; Manufacturer: Texas Instruments; PartNumber: CD54AC00F3A; VCC(Min)(V): 1.5; VCC(Max)(V): 5.5; Output Type: CMOS; ICC @ Nom Voltage(Max)(mA): 0.08; F @ Nom Voltage(Max)(Mhz): 100; Rating: Military; Technology Family: AC; Voltage(Nom)(V): 1.5,3.3,5; Schmitt Trigger: No; Output Drive (IOL/IOH)(Max)(mA): 24/-24; tpd @ Nom Voltage(Max)(ns): 91,10.2,7.3; DatasheetVersion: SCHS303C; PackageReference: J0014A; Input Type: CMOS; Operating Temperature Range(C): -55 to 125; ComponentLink1Description: Manufacturer URL; ComponentLink1URL: http://www.ti.com/; ComponentLink2Description: Datasheet; ComponentLink2URL: http://www.ti.com/lit/ds/symlink/cd54ac00.pdf; ComponentLink3Description: Package Specification; ComponentLink3URL: http://www.ti.com/lit/ml/mcer002d/mcer002d.pdf
footprint J0014A (DIP, 14-Leads, Body 19.95x7.2mm, Pitch 2.54mm)
part A pins: 1 1A (in) "Gate 1 input", 2 1B (in) "Gate 1 input", 3 1Y (out) "Gate 1 output"
part B pins: 4 2A (in) "Gate 2 input", 5 2B (in) "Gate 2 input", 6 2Y (out) "Gate 2 output"
part C pins: 8 3Y (out) "Gate 3 output", 9 3A (in) "Gate 3 input", 10 3B (in) "Gate 3 input"
part D pins: 11 4Y (out) "Gate 4 output", 12 4A (in) "Gate 4 input", 13 4B (in) "Gate 4 input"
part E pins: 7 GND (power) "Ground Pin", 14 VCC (power) "Power Pin"

## CD54AC02F3A
designator U?
Quad 2-Input NOR Gates, J0014A, TUBE; Generic Part Number: CD54AC02; Manufacturer: Texas Instruments; PartNumber: CD54AC02F3A; VCC(Min)(V): 1.5; VCC(Max)(V): 5.5; Output Type: CMOS; Bits(#): 4; Rating: Military; tpd @ Nom Voltage(Max)(ns): 144,16.1,11.5; ICC @ Nom Voltage(Max)(mA): 0.08; F @ Nom Voltage(Max)(Mhz): 100; Voltage(Nom)(V): 1.5,3.3,5; Output Drive (IOL/IOH)(Max)(mA): 24/-24; DatasheetVersion: SCHS304C; PackageReference: J0014A; Input Type: CMOS; Operating Temperature Range(C): -55 to 125; ComponentLink1Description: Manufacturer URL; ComponentLink1URL: http://www.ti.com/; ComponentLink2Description: Datasheet; ComponentLink2URL: http://www.ti.com/lit/ds/symlink/cd54ac02.pdf; ComponentLink3Description: Package Specification; ComponentLink3URL: http://www.ti.com/lit/ml/mcer002d/mcer002d.pdf
footprint J0014A (DIP, 14-Leads, Body 19.95x7.2mm, Pitch 2.54mm)
part A pins: 1 1Y (out) "1Y output", 2 1A (in) "1A input", 3 1B (in) "1B input"
part B pins: 4 2Y (out) "2Y output", 5 2A (in) "2A input", 6 2B (in) "2B input"
part C pins: 8 3A (in) "3A input", 9 3B (in) "3B input", 10 3Y (out) "3Y output"
part D pins: 11 4A (in) "4A input", 12 4B (in) "4B input", 13 4Y (out) "4Y output"
part E pins: 7 GND (power), 14 VCC (power)

## CD54AC08F3A
designator U?
Quad 2-Input AND Gates, J0014A, TUBE; Generic Part Number: CD54AC08; Manufacturer: Texas Instruments; PartNumber: CD54AC08F3A; VCC(Min)(V): 1.5; VCC(Max)(V): 5.5; Output Type: CMOS; ICC @ Nom Voltage(Max)(mA): 0.08; F @ Nom Voltage(Max)(Mhz): 100; Rating: Military; Technology Family: AC; Voltage(Nom)(V): 1.5,3.3,5; Schmitt Trigger: No; Output Drive (IOL/IOH)(Max)(mA): -24/24; tpd @ Nom Voltage(Max)(ns): 109,12.2,8.7; DatasheetVersion: SCHS307C; PackageReference: J0014A; Input Type: CMOS; Operating Temperature Range(C): -55 to 125; ComponentLink1Description: Manufacturer URL; ComponentLink1URL: http://www.ti.com/; ComponentLink2Description: Datasheet; ComponentLink2URL: http://www.ti.com/lit/ds/symlink/cd54ac08.pdf
footprint J0014A (DIP, 14-Leads, Body 19.95x7.2mm, Pitch 2.54mm)
part A pins: 1 1A (in), 2 1B (in), 3 1Y (out)
part B pins: 4 2A (in), 5 2B (in), 6 2Y (out)
part C pins: 8 3Y (out), 9 3A (in), 10 3B (in)
part D pins: 11 4Y (out), 12 4A (in), 13 4B (in)
part E pins: 7 GND (power), 14 VCC (power)

## CD54AC32F3A
designator U?
Quad 2-Input OR Gates, J0014A, TUBE; Generic Part Number: CD54AC32; Manufacturer: Texas Instruments; PartNumber: CD54AC32F3A; VCC(Min)(V): 1.5; VCC(Max)(V): 5.5; Output Type: CMOS; ICC @ Nom Voltage(Max)(mA): 0.04; Bits(#): 4; F @ Nom Voltage(Max)(Mhz): 100; Rating: Military; Voltage(Nom)(V): 1.5,3.3,5; Output Drive (IOL/IOH)(Max)(mA): 24/-24; tpd @ Nom Voltage(Max)(ns): 119,13.3,9.5; DatasheetVersion: SCHS343; PackageReference: J0014A; Input Type: CMOS; Operating Temperature Range(C): -55 to 125; ComponentLink1Description: Manufacturer URL; ComponentLink1URL: http://www.ti.com/; ComponentLink2Description: Datasheet; ComponentLink2URL: http://www.ti.com/lit/ds/symlink/cd54ac32.pdf; ComponentLink3Description: Package Specification; ComponentLink3URL: http://www.ti.com/lit/ml/mcer002d/mcer002d.pdf
footprint J0014A (DIP, 14-Leads, Body 19.95x7.2mm, Pitch 2.54mm)
part A pins: 1 1A (in), 2 1B (in), 3 1Y (out)
part B pins: 4 2A (in), 5 2B (in), 6 2Y (out)
part C pins: 8 3Y (out), 9 3A (in), 10 3B (in)
part D pins: 11 4Y (out), 12 4A (in), 13 4B (in)
part E pins: 7 GND (power), 14 VCC (power)

## CD54ACT00F3A
designator U?
Quad 2-Input NAND Gates, J0014A, TUBE; Generic Part Number: CD54ACT00; Manufacturer: Texas Instruments; PartNumber: CD54ACT00F3A; VCC(Min)(V): 4.5; VCC(Max)(V): 5.5; Output Type: CMOS; Input Type: TTL; Rating: Military; Technology Family: ACT; Schmitt Trigger: No; DatasheetVersion: SCHS308B; PackageReference: J0014A; Operating Temperature Range(C): -55 to 125; ComponentLink1Description: Manufacturer URL; ComponentLink1URL: http://www.ti.com/; ComponentLink2Description: Datasheet; ComponentLink2URL: http://www.ti.com/lit/ds/symlink/cd54act00.pdf; ComponentLink3Description: Package Specification; ComponentLink3URL: http://www.ti.com/lit/ml/mcer002d/mcer002d.pdf
footprint J0014A (DIP, 14-Leads, Body 19.95x7.2mm, Pitch 2.54mm)
part A pins: 1 1A (in) "Gate 1 input", 2 1B (in) "Gate 1 input", 3 1Y (out) "Gate 1 output"
part B pins: 4 2A (in) "Gate 2 input", 5 2B (in) "Gate 2 input", 6 2Y (out) "Gate 2 output"
part C pins: 8 3Y (out) "Gate 3 output", 9 3A (in) "Gate 3 input", 10 3B (in) "Gate 3 input"
part D pins: 11 4Y (out) "Gate 4 output", 12 4A (in) "Gate 4 input", 13 4B (in) "Gate 4 input"
part E pins: 7 GND (power) "Ground Pin", 14 VCC (power) "Power Pin"

## CD54ACT02F3A
designator U?
Quad 2-Input NOR Gates, J0014A, TUBE; Generic Part Number: CD54ACT02; Manufacturer: Texas Instruments; PartNumber: CD54ACT02F3A; VCC(Min)(V): 4.5; VCC(Max)(V): 5.5; Output Type: CMOS; Input Type: TTL; Bits(#): 4; Rating: Military; tpd @ Nom Voltage(Max)(ns): 12.2; DatasheetVersion: SCHS309B; PackageReference: J0014A; Operating Temperature Range(C): -55 to 125; ComponentLink1Description: Manufacturer URL; ComponentLink1URL: http://www.ti.com/; ComponentLink2Description: Datasheet; ComponentLink2URL: http://www.ti.com/lit/ds/symlink/cd54act02.pdf; ComponentLink3Description: Package Specification; ComponentLink3URL: http://www.ti.com/lit/ml/mcer002d/mcer002d.pdf
footprint J0014A (DIP, 14-Leads, Body 19.95x7.2mm, Pitch 2.54mm)
part A pins: 1 1Y (out) "1Y output", 2 1A (in) "1A input", 3 1B (in) "1B input"
part B pins: 4 2Y (out) "2Y output", 5 2A (in) "2A input", 6 2B (in) "2B input"
part C pins: 8 3A (in) "3A input", 9 3B (in) "3B input", 10 3Y (out) "3Y output"
part D pins: 11 4A (in) "4A input", 12 4B (in) "4B input", 13 4Y (out) "4Y output"
part E pins: 7 GND (power), 14 VCC (power)

## CD54ACT08F3A
designator U?
Quad 2-Input AND Gates, J0014A, TUBE; Generic Part Number: CD54ACT08; Manufacturer: Texas Instruments; PartNumber: CD54ACT08F3A; VCC(Min)(V): 4.5; VCC(Max)(V): 5.5; Output Type: CMOS; Input Type: TTL; Rating: Military; Technology Family: ACT; Schmitt Trigger: No; Output Drive (IOL/IOH)(Max)(mA): -24/24; tpd @ Nom Voltage(Max)(ns): 12.9; DatasheetVersion: SCHS312B; PackageReference: J0014A; Operating Temperature Range(C): -55 to 125; ComponentLink1Description: Manufacturer URL; ComponentLink1URL: http://www.ti.com/; ComponentLink2Description: Datasheet; ComponentLink2URL: http://www.ti.com/lit/ds/symlink/cd54act08.pdf
footprint J0014A (DIP, 14-Leads, Body 19.95x7.2mm, Pitch 2.54mm)
part A pins: 1 1A (in), 2 1B (in), 3 1Y (out)
part B pins: 4 2A (in), 5 2B (in), 6 2Y (out)
part C pins: 8 3Y (out), 9 3A (in), 10 3B (in)
part D pins: 11 4Y (out), 12 4A (in), 13 4B (in)
part E pins: 7 GND (power), 14 VCC (power)

## CD54ACT20F3A
designator U?
Dual 4-Input NAND Gates, J0014A, TUBE; Generic Part Number: CD54ACT20; Manufacturer: Texas Instruments; PartNumber: CD54ACT20F3A; VCC(Min)(V): 4.5; VCC(Max)(V): 5.5; Output Type: CMOS; Input Type: TTL; Rating: Military; Technology Family: ACT; Schmitt Trigger: No; DatasheetVersion: SCHS320; PackageReference: J0014A; Operating Temperature Range(C): -55 to 125; ComponentLink1Description: Manufacturer URL; ComponentLink1URL: http://www.ti.com/; ComponentLink2Description: Datasheet; ComponentLink2URL: http://www.ti.com/lit/ds/symlink/cd54act20.pdf; ComponentLink3Description: Package Specification; ComponentLink3URL: http://www.ti.com/lit/ml/mcer002d/mcer002d.pdf
footprint J0014A (DIP, 14-Leads, Body 19.95x7.2mm, Pitch 2.54mm)
part A pins: 1 1A (in), 2 1B (in), 4 1C (in), 5 1D (in), 6 1Y (out)
part B pins: 8 2Y (out), 9 2A (in), 10 2B (in), 12 2C (in), 13 2D (in)
part C pins: 3 NC, 7 GND (power), 11 NC, 14 VCC (power)

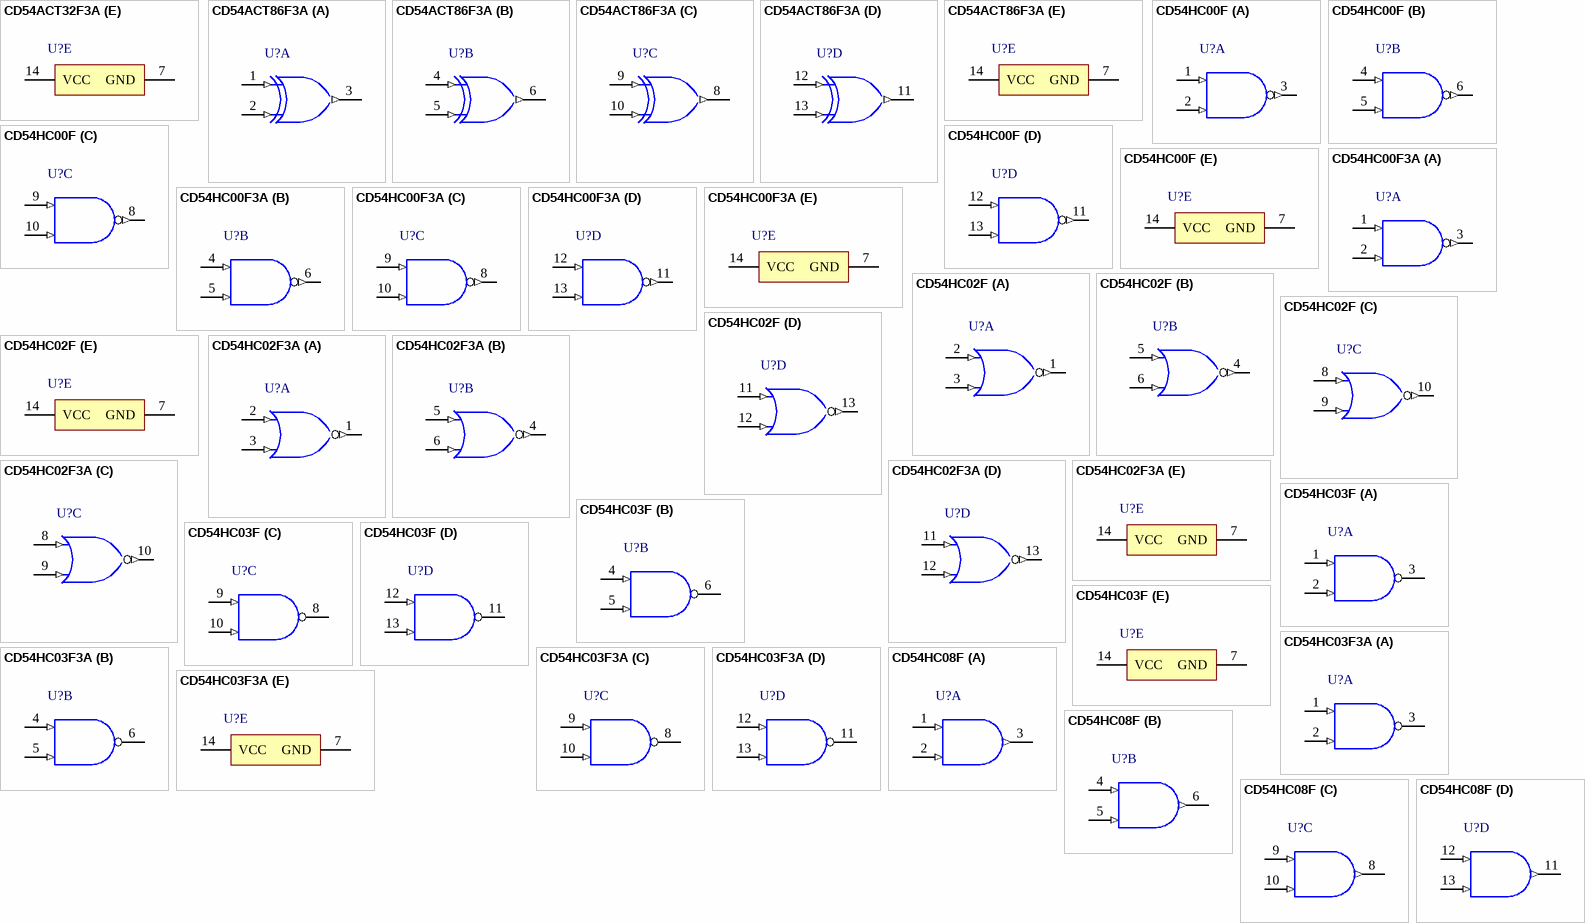
[diagram p8: symbols CD54ACT32F3A to CD54HC08F]

## CD54ACT32F3A
designator U?
Quad 2-Input OR Gates, J0014A, TUBE; Generic Part Number: CD54ACT32; Manufacturer: Texas Instruments; PartNumber: CD54ACT32F3A; VCC(Min)(V): 4.5; VCC(Max)(V): 5.5; Output Type: CMOS; Input Type: TTL; Bits(#): 4; Rating: Military; tpd @ Nom Voltage(Max)(ns): 12.1; DatasheetVersion: SCHS342; PackageReference: J0014A; Operating Temperature Range(C): -55 to 125; ComponentLink1Description: Manufacturer URL; ComponentLink1URL: http://www.ti.com/; ComponentLink2Description: Datasheet; ComponentLink2URL: http://www.ti.com/lit/ds/symlink/cd54act32.pdf; ComponentLink3Description: Package Specification; ComponentLink3URL: http://www.ti.com/lit/ml/mcer002d/mcer002d.pdf
footprint J0014A (DIP, 14-Leads, Body 19.95x7.2mm, Pitch 2.54mm)
part A pins: 1 1A (in), 2 1B (in), 3 1Y (out)
part B pins: 4 2A (in), 5 2B (in), 6 2Y (out)
part C pins: 8 3Y (out), 9 3A (in), 10 3B (in)
part D pins: 11 4Y (out), 12 4A (in), 13 4B (in)
part E pins: 7 GND (power), 14 VCC (power)

## CD54ACT86F3A
designator U?
Quad 2-Input Exclusive-OR Gates, J0014A, TUBE; Generic Part Number: CD54ACT86; Manufacturer: Texas Instruments; PartNumber: CD54ACT86F3A; VCC(Min)(V): 4.5; VCC(Max)(V): 5.5; Output Type: CMOS; Input Type: TTL; Rating: Military; Technology Family: ACT; Schmitt Trigger: No; DatasheetVersion: SCHS322; PackageReference: J0014A; Operating Temperature Range(C): -55 to 125; ComponentLink1Description: Manufacturer URL; ComponentLink1URL: http://www.ti.com/; ComponentLink2Description: Datasheet; ComponentLink2URL: http://www.ti.com/lit/ds/symlink/cd54act86.pdf
footprint J0014A (DIP, 14-Leads, Body 19.95x7.2mm, Pitch 2.54mm)
part A pins: 1 1A (in), 2 1B (in), 3 1Y (out)
part B pins: 4 2A (in), 5 2B (in), 6 2Y (out)
part C pins: 8 3Y (out), 9 3A (in), 10 3B (in)
part D pins: 11 4Y (out), 12 4A (in), 13 4B (in)
part E pins: 7 GND (power), 14 VCC (power)

## CD54HC00F
designator U?
High Speed CMOS Logic Quad 2-Input NAND Gates, J0014A, TUBE; Generic Part Number: CD54HC00; Manufacturer: Texas Instruments; PartNumber: CD54HC00F; VCC(Min)(V): 2; VCC(Max)(V): 6; Rating: Military; Technology Family: HC; Schmitt Trigger: No; DatasheetVersion: SCHS116C; PackageReference: J0014A; Output Type: CMOS; Input Type: CMOS; Operating Temperature Range(C): -55 to 125; ComponentLink1Description: Manufacturer URL; ComponentLink1URL: http://www.ti.com/; ComponentLink2Description: Datasheet; ComponentLink2URL: http://www.ti.com/lit/ds/symlink/cd54hc00.pdf; ComponentLink3Description: Package Specification; ComponentLink3URL: http://www.ti.com/lit/ml/mcer002d/mcer002d.pdf
footprint J0014A (DIP, 14-Leads, Body 19.95x7.2mm, Pitch 2.54mm)
part A pins: 1 1A (in) "Gate 1 input", 2 1B (in) "Gate 1 input", 3 1Y (out) "Gate 1 output"
part B pins: 4 2A (in) "Gate 2 input", 5 2B (in) "Gate 2 input", 6 2Y (out) "Gate 2 output"
part C pins: 8 3Y (out) "Gate 3 output", 9 3A (in) "Gate 3 input", 10 3B (in) "Gate 3 input"
part D pins: 11 4Y (out) "Gate 4 output", 12 4A (in) "Gate 4 input", 13 4B (in) "Gate 4 input"
part E pins: 7 GND (power) "Ground Pin", 14 VCC (power) "Power Pin"

## CD54HC00F3A
designator U?
High Speed CMOS Logic Quad 2-Input NAND Gates, J0014A, TUBE; Generic Part Number: CD54HC00; Manufacturer: Texas Instruments; PartNumber: CD54HC00F3A; VCC(Min)(V): 2; VCC(Max)(V): 6; Rating: Military; Technology Family: HC; Schmitt Trigger: No; DatasheetVersion: SCHS116C; PackageReference: J0014A; Output Type: CMOS; Input Type: CMOS; Operating Temperature Range(C): -55 to 125; ComponentLink1Description: Manufacturer URL; ComponentLink1URL: http://www.ti.com/; ComponentLink2Description: Datasheet; ComponentLink2URL: http://www.ti.com/lit/ds/symlink/cd54hc00.pdf; ComponentLink3Description: Package Specification; ComponentLink3URL: http://www.ti.com/lit/ml/mcer002d/mcer002d.pdf
footprint J0014A (DIP, 14-Leads, Body 19.95x7.2mm, Pitch 2.54mm)
part A pins: 1 1A (in) "Gate 1 input", 2 1B (in) "Gate 1 input", 3 1Y (out) "Gate 1 output"
part B pins: 4 2A (in) "Gate 2 input", 5 2B (in) "Gate 2 input", 6 2Y (out) "Gate 2 output"
part C pins: 8 3Y (out) "Gate 3 output", 9 3A (in) "Gate 3 input", 10 3B (in) "Gate 3 input"
part D pins: 11 4Y (out) "Gate 4 output", 12 4A (in) "Gate 4 input", 13 4B (in) "Gate 4 input"
part E pins: 7 GND (power) "Ground Pin", 14 VCC (power) "Power Pin"

## CD54HC02F
designator U?
High Speed CMOS Logic Quad 2-Input NOR Gates, J0014A, TUBE; Generic Part Number: CD54HC02; Manufacturer: Texas Instruments; PartNumber: CD54HC02F; VCC(Min)(V): 2; VCC(Max)(V): 6; Bits(#): 4; Rating: Military; tpd @ Nom Voltage(Max)(ns): 135; DatasheetVersion: SCHS125C; PackageReference: J0014A; Output Type: CMOS; Input Type: CMOS; Operating Temperature Range(C): -55 to 125; ComponentLink1Description: Manufacturer URL; ComponentLink1URL: http://www.ti.com/; ComponentLink2Description: Datasheet; ComponentLink2URL: http://www.ti.com/lit/ds/symlink/cd54hc02.pdf; ComponentLink3Description: Package Specification; ComponentLink3URL: http://www.ti.com/lit/ml/mcer002d/mcer002d.pdf
footprint J0014A (DIP, 14-Leads, Body 19.95x7.2mm, Pitch 2.54mm)
part A pins: 1 1Y (out) "1Y output", 2 1A (in) "1A input", 3 1B (in) "1B input"
part B pins: 4 2Y (out) "2Y output", 5 2A (in) "2A input", 6 2B (in) "2B input"
part C pins: 8 3A (in) "3A input", 9 3B (in) "3B input", 10 3Y (out) "3Y output"
part D pins: 11 4A (in) "4A input", 12 4B (in) "4B input", 13 4Y (out) "4Y output"
part E pins: 7 GND (power), 14 VCC (power)

## CD54HC02F3A
designator U?
High Speed CMOS Logic Quad 2-Input NOR Gates, J0014A, TUBE; Generic Part Number: CD54HC02; Manufacturer: Texas Instruments; PartNumber: CD54HC02F3A; VCC(Min)(V): 2; VCC(Max)(V): 6; Bits(#): 4; Rating: Military; tpd @ Nom Voltage(Max)(ns): 135; DatasheetVersion: SCHS125C; PackageReference: J0014A; Output Type: CMOS; Input Type: CMOS; Operating Temperature Range(C): -55 to 125; ComponentLink1Description: Manufacturer URL; ComponentLink1URL: http://www.ti.com/; ComponentLink2Description: Datasheet; ComponentLink2URL: http://www.ti.com/lit/ds/symlink/cd54hc02.pdf; ComponentLink3Description: Package Specification; ComponentLink3URL: http://www.ti.com/lit/ml/mcer002d/mcer002d.pdf
footprint J0014A (DIP, 14-Leads, Body 19.95x7.2mm, Pitch 2.54mm)
part A pins: 1 1Y (out) "1Y output", 2 1A (in) "1A input", 3 1B (in) "1B input"
part B pins: 4 2Y (out) "2Y output", 5 2A (in) "2A input", 6 2B (in) "2B input"
part C pins: 8 3A (in) "3A input", 9 3B (in) "3B input", 10 3Y (out) "3Y output"
part D pins: 11 4A (in) "4A input", 12 4B (in) "4B input", 13 4Y (out) "4Y output"
part E pins: 7 GND (power), 14 VCC (power)

## CD54HC03F
designator U?
High Speed CMOS Logic Quad 2-Input NAND Gates with Open Drain, J0014A, TUBE; Generic Part Number: CD54HC03; Manufacturer: Texas Instruments; PartNumber: CD54HC03F; VCC(Min)(V): 2; VCC(Max)(V): 6; Rating: Military; Technology Family: HC; Schmitt Trigger: No; DatasheetVersion: SCHS126D; PackageReference: J0014A; Output Type: CMOS; Input Type: CMOS; Operating Temperature Range(C): -55 to 125; ComponentLink1Description: Manufacturer URL; ComponentLink1URL: http://www.ti.com/; ComponentLink2Description: Datasheet; ComponentLink2URL: http://www.ti.com/lit/ds/symlink/cd54hc03.pdf; ComponentLink3Description: Package Specification; ComponentLink3URL: http://www.ti.com/lit/ml/mcer002d/mcer002d.pdf
footprint J0014A (DIP, 14-Leads, Body 19.95x7.2mm, Pitch 2.54mm)
part A pins: 1 1A (in), 2 1B (in), 3 1Y (oc)
part B pins: 4 2A (in), 5 2B (in), 6 2Y (oc)
part C pins: 8 3Y (oc), 9 3A (in), 10 3B (in)
part D pins: 11 4Y (oc), 12 4A (in), 13 4B (in)
part E pins: 7 GND (power), 14 VCC (power)

## CD54HC03F3A
designator U?
High Speed CMOS Logic Quad 2-Input NAND Gates with Open Drain, J0014A, TUBE; Generic Part Number: CD54HC03; Manufacturer: Texas Instruments; PartNumber: CD54HC03F3A; VCC(Min)(V): 2; VCC(Max)(V): 6; Rating: Military; Technology Family: HC; Schmitt Trigger: No; DatasheetVersion: SCHS126D; PackageReference: J0014A; Output Type: CMOS; Input Type: CMOS; Operating Temperature Range(C): -55 to 125; ComponentLink1Description: Manufacturer URL; ComponentLink1URL: http://www.ti.com/; ComponentLink2Description: Datasheet; ComponentLink2URL: http://www.ti.com/lit/ds/symlink/cd54hc03.pdf; ComponentLink3Description: Package Specification; ComponentLink3URL: http://www.ti.com/lit/ml/mcer002d/mcer002d.pdf
footprint J0014A (DIP, 14-Leads, Body 19.95x7.2mm, Pitch 2.54mm)
part A pins: 1 1A (in), 2 1B (in), 3 1Y (oc)
part B pins: 4 2A (in), 5 2B (in), 6 2Y (oc)
part C pins: 8 3Y (oc), 9 3A (in), 10 3B (in)
part D pins: 11 4Y (oc), 12 4A (in), 13 4B (in)
part E pins: 7 GND (power), 14 VCC (power)

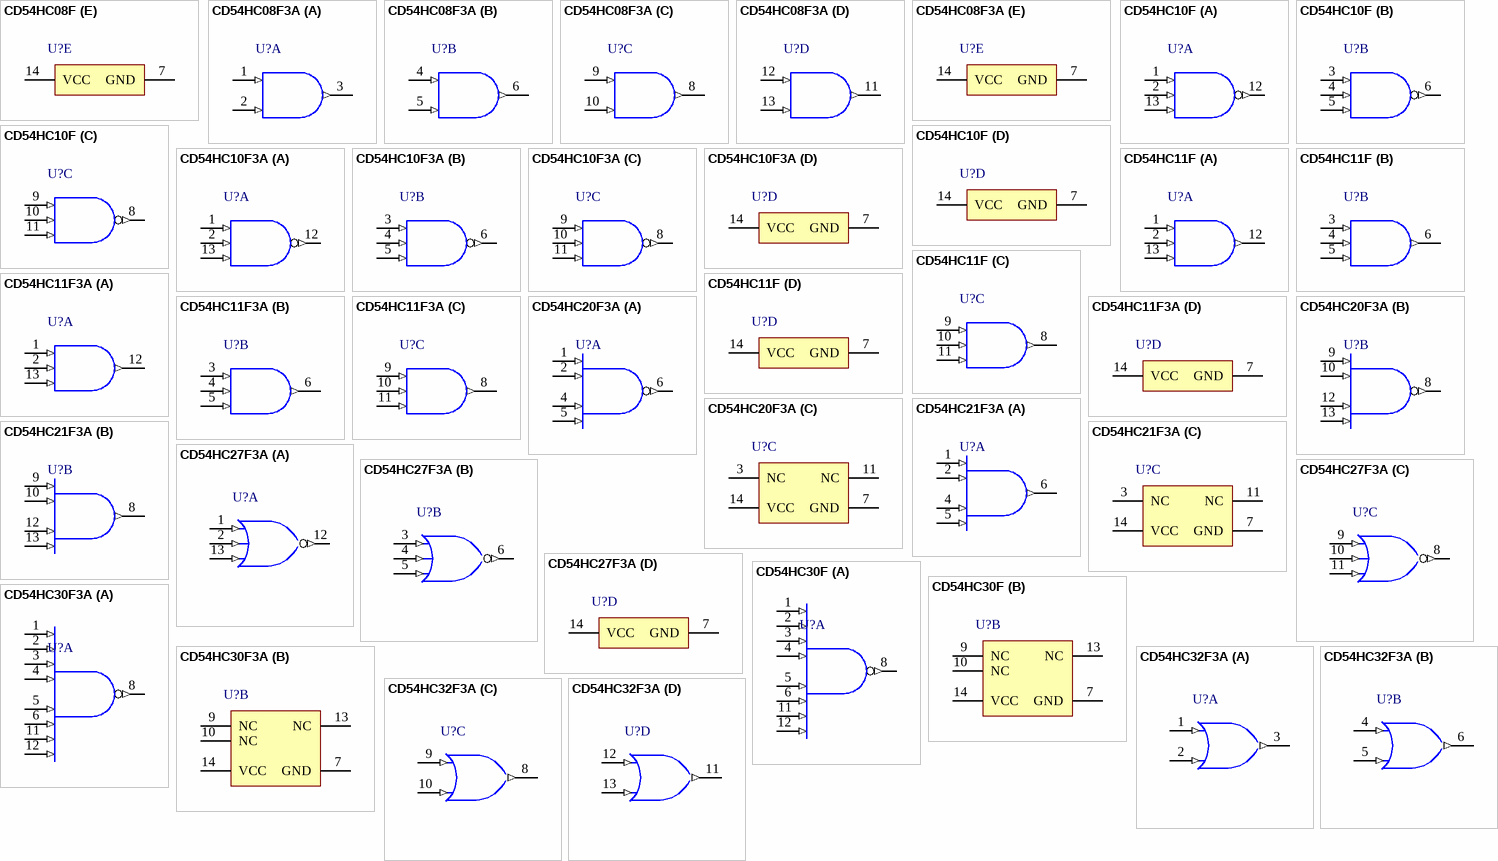
[diagram p9: symbols CD54HC08F to CD54HC32F3A]

## CD54HC08F
designator U?
High Speed CMOS Logic Quad 2-Input AND Gates, J0014A, TUBE; Generic Part Number: CD54HC08; Manufacturer: Texas Instruments; PartNumber: CD54HC08F; VCC(Min)(V): 2; VCC(Max)(V): 6; Rating: Military; Technology Family: HC; Schmitt Trigger: No; Output Drive (IOL/IOH)(Max)(mA): -24/24; tpd @ Nom Voltage(Max)(ns): 135; DatasheetVersion: SCHS118C; PackageReference: J0014A; Output Type: CMOS; Input Type: CMOS; Operating Temperature Range(C): -55 to 125; ComponentLink1Description: Manufacturer URL; ComponentLink1URL: http://www.ti.com/; ComponentLink2Description: Datasheet; ComponentLink2URL: http://www.ti.com/lit/ds/symlink/cd54hc08.pdf
footprint J0014A (DIP, 14-Leads, Body 19.95x7.2mm, Pitch 2.54mm)
part A pins: 1 1A (in), 2 1B (in), 3 1Y (out)
part B pins: 4 2A (in), 5 2B (in), 6 2Y (out)
part C pins: 8 3Y (out), 9 3A (in), 10 3B (in)
part D pins: 11 4Y (out), 12 4A (in), 13 4B (in)
part E pins: 7 GND (power), 14 VCC (power)

## CD54HC08F3A
designator U?
High Speed CMOS Logic Quad 2-Input AND Gates, J0014A, TUBE; Generic Part Number: CD54HC08; Manufacturer: Texas Instruments; PartNumber: CD54HC08F3A; VCC(Min)(V): 2; VCC(Max)(V): 6; Rating: Military; Technology Family: HC; Schmitt Trigger: No; Output Drive (IOL/IOH)(Max)(mA): -24/24; tpd @ Nom Voltage(Max)(ns): 135; DatasheetVersion: SCHS118C; PackageReference: J0014A; Output Type: CMOS; Input Type: CMOS; Operating Temperature Range(C): -55 to 125; ComponentLink1Description: Manufacturer URL; ComponentLink1URL: http://www.ti.com/; ComponentLink2Description: Datasheet; ComponentLink2URL: http://www.ti.com/lit/ds/symlink/cd54hc08.pdf
footprint J0014A (DIP, 14-Leads, Body 19.95x7.2mm, Pitch 2.54mm)
part A pins: 1 1A (in), 2 1B (in), 3 1Y (out)
part B pins: 4 2A (in), 5 2B (in), 6 2Y (out)
part C pins: 8 3Y (out), 9 3A (in), 10 3B (in)
part D pins: 11 4Y (out), 12 4A (in), 13 4B (in)
part E pins: 7 GND (power), 14 VCC (power)

## CD54HC10F
designator U?
High Speed CMOS Logic Triple 3-Input NAND Gates, J0014A, TUBE; Generic Part Number: CD54HC10; Manufacturer: Texas Instruments; PartNumber: CD54HC10F; VCC(Min)(V): 2; VCC(Max)(V): 6; Rating: Military; Technology Family: HC; Schmitt Trigger: No; DatasheetVersion: SCHS128C; PackageReference: J0014A; Output Type: CMOS; Input Type: CMOS; Operating Temperature Range(C): -55 to 125; ComponentLink1Description: Manufacturer URL; ComponentLink1URL: http://www.ti.com/; ComponentLink2Description: Datasheet; ComponentLink2URL: http://www.ti.com/lit/ds/symlink/cd54hc10.pdf; ComponentLink3Description: Package Specification; ComponentLink3URL: http://www.ti.com/lit/ml/mcer002d/mcer002d.pdf
footprint J0014A (DIP, 14-Leads, Body 19.95x7.2mm, Pitch 2.54mm)
part A pins: 1 1A (in), 2 1B (in), 12 1Y (out), 13 1C (in)
part B pins: 3 2A (in), 4 2B (in), 5 2C (in), 6 2Y (out)
part C pins: 8 3Y (out), 9 3A (in), 10 3B (in), 11 3C (in)
part D pins: 7 GND (power), 14 VCC (power)

## CD54HC10F3A
designator U?
High Speed CMOS Logic Triple 3-Input NAND Gates, J0014A, TUBE; Generic Part Number: CD54HC10; Manufacturer: Texas Instruments; PartNumber: CD54HC10F3A; VCC(Min)(V): 2; VCC(Max)(V): 6; Rating: Military; Technology Family: HC; Schmitt Trigger: No; DatasheetVersion: SCHS128C; PackageReference: J0014A; Output Type: CMOS; Input Type: CMOS; Operating Temperature Range(C): -55 to 125; ComponentLink1Description: Manufacturer URL; ComponentLink1URL: http://www.ti.com/; ComponentLink2Description: Datasheet; ComponentLink2URL: http://www.ti.com/lit/ds/symlink/cd54hc10.pdf; ComponentLink3Description: Package Specification; ComponentLink3URL: http://www.ti.com/lit/ml/mcer002d/mcer002d.pdf
footprint J0014A (DIP, 14-Leads, Body 19.95x7.2mm, Pitch 2.54mm)
part A pins: 1 1A (in), 2 1B (in), 12 1Y (out), 13 1C (in)
part B pins: 3 2A (in), 4 2B (in), 5 2C (in), 6 2Y (out)
part C pins: 8 3Y (out), 9 3A (in), 10 3B (in), 11 3C (in)
part D pins: 7 GND (power), 14 VCC (power)

## CD54HC11F
designator U?
High Speed CMOS Logic Triple 3-Input AND Gates, J0014A, TUBE; Generic Part Number: CD54HC11; Manufacturer: Texas Instruments; PartNumber: CD54HC11F; VCC(Min)(V): 2; VCC(Max)(V): 6; Rating: Military; Technology Family: HC; Schmitt Trigger: No; Output Drive (IOL/IOH)(Max)(mA): -5.2/5.2; tpd @ Nom Voltage(Max)(ns): 150; DatasheetVersion: SCHS273E; PackageReference: J0014A; Output Type: CMOS; Input Type: CMOS; Operating Temperature Range(C): -55 to 125; ComponentLink1Description: Manufacturer URL; ComponentLink1URL: http://www.ti.com/; ComponentLink2Description: Datasheet; ComponentLink2URL: http://www.ti.com/lit/ds/symlink/cd54hc11.pdf
footprint J0014A (DIP, 14-Leads, Body 19.95x7.2mm, Pitch 2.54mm)
part A pins: 1 1A (in), 2 1B (in), 12 1Y (out), 13 1C (in)
part B pins: 3 2A (in), 4 2B (in), 5 2C (in), 6 2Y (out)
part C pins: 8 3Y (out), 9 3A (in), 10 3B (in), 11 3C (in)
part D pins: 7 GND (power), 14 VCC (power)